# Altium schematic symbol library M25P128-VMF6.SchLib: 1 symbol
Pins are listed as number, name and electrical type; pins without a type are passive.

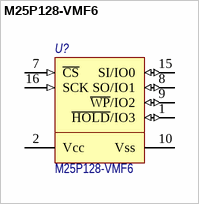
[diagram p0: symbol M25P128-VMF6]

## M25P128-VMF6
designator U?
Programmable NOR flash memory; Потребление, Вт: 0.1; Назначение: Programmable NOR flash memory; ComponentLink1Description: DataSheet; ComponentLink1URL: https://static.chipdip.ru/lib/021/DOC013021144.pdf; Supplier 1: Digi-Key; Supplier Part Number 1: 428-4618-ND; Наименование: M25P128-VMF6
footprint SOIC-16-WIDE (SOIC, 16-Leads, Body 10.3x7.5mm, Pitch 1.27mm, IPC Medium Density)
pins: 1 ~{HOLD}/IO3 (io) "Data 3", 2 Vcc (power), 7 ~{CS} (in) "nCS", 8 SO/IO1 (io) "Data 1", 9 ~{WP}/IO2 (io) "Data 2", 10 Vss (power) "GND", 15 SI/IO0 (io) "Data 0", 16 SCK (in) "DCLK"